# Altium schematic symbol library LTST-C170KFKT.SchLib: 1 symbol
Pins are listed as number, name and electrical type; pins without a type are passive.

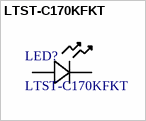
[diagram p0: symbol LTST-C170KFKT]

## LTST-C170KFKT
designator LED?
Description; Manufacturer_Name: LITE-ON; Copyright: Copyright (C) 2025 Ultra Librarian. All rights reserved.; Manufacturer_Part_Number: LTST-C170KFKT
footprint LED_LTST-C170KFKT_LTO
pins: 1, 2